# Altium footprint library SamacSys.PcbLib: 89 footprints (part 3 of 6)
Each footprint in its own frame and in the unit in brackets; x right, y up, seen from the top. Pads: shape width x height; smd on the part's side, far side on the other; paste and mask are expansions set on the pad; w line width, h text height; cw(c..) or ccw(c..) is an arc to the next point about the centre after c.
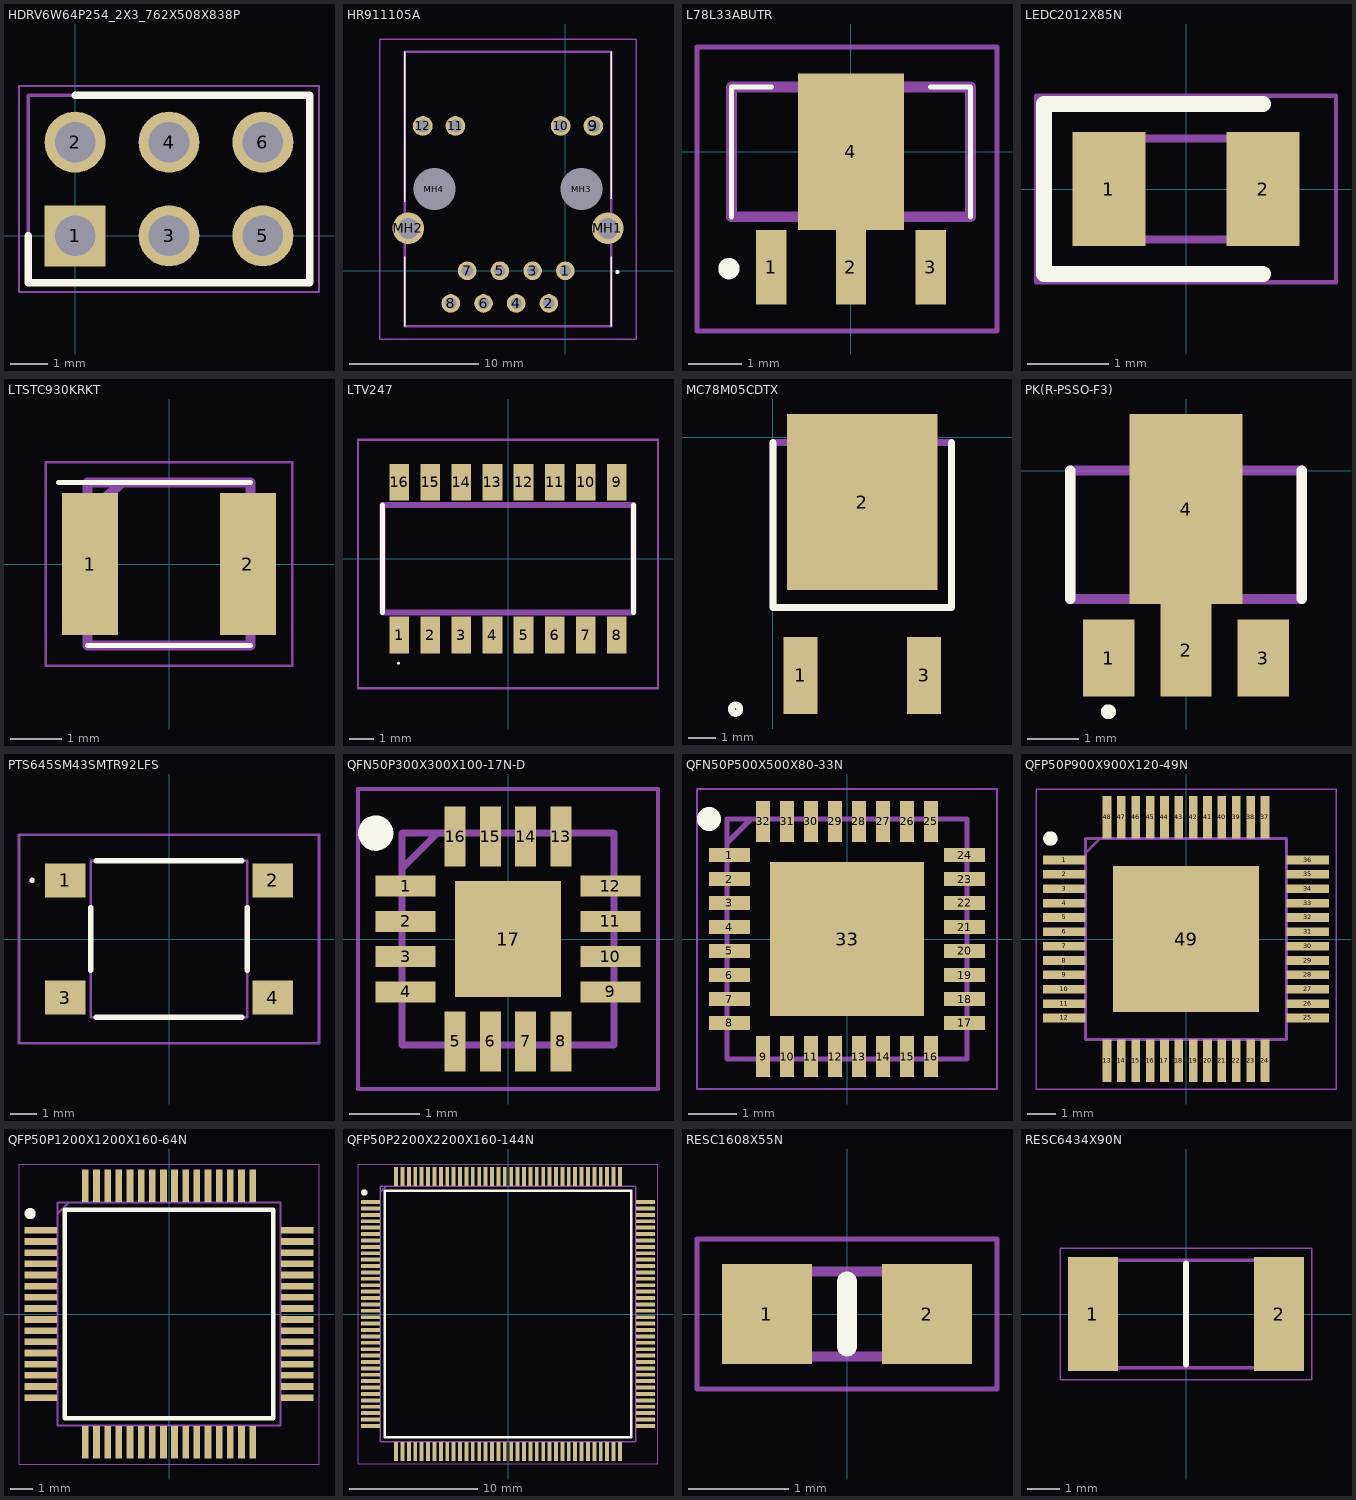
[diagram p2: the footprints below, top view; thin cyan lines are the x and y axes]

## HDRV6W64P254_2X3_762X508X838P [mm]
pads (6):
  rect 1.65x1.65 hole 1.1: 1(0,0)
  round 1.65 hole 1.1: 2(0,2.54) 3(2.54,0) 4(2.54,2.54) 5(5.08,0) 6(5.08,2.54)
Top Overlay:
  lines w0.2: -1.27,0 -1.27,-1.27 6.35,-1.27 6.35,3.81 0,3.81
Mechanical 13:
  lines w0.1: -1.27,-1.27 6.35,-1.27 6.35,3.81 -1.27,3.81 -1.27,-1.27
Mechanical 15:
  lines w0.05: -1.52,-1.52 6.6,-1.52 6.6,4.06 -1.52,4.06 -1.52,-1.52
3D body "TSW-103-07-L-D-LL.stp": height 8.38, standoff -2.54, extent -1.27,-1.27 6.35,3.81

## HR911105A [mm]
pads (16):
  round 1.446 hole 0.89: 1(0,0) 2(-1.27,-2.54) 3(-2.54,0) 4(-3.81,-2.54) 5(-5.08,0) 6(-6.35,-2.54) 7(-7.62,0) 8(-8.89,-2.54)
  round 1.53 hole 1.02: 9(2.18,11.25) 10(-0.36,11.25) 11(-8.53,11.25) 12(-11.07,11.25)
  round 2.445 hole 1.63: MH1(3.3,3.3) MH2(-12.19,3.3)
  round 1.625 hole 3.25 unplated: MH3(1.27,6.35) MH4(-10.16,6.35)
Top Overlay:
  lines w0.1: -12.465,-4.3 -12.465,1.1 -12.465,-4.3 ; -12.465,5.35 -12.465,17 -12.465,5.35 ; 3.575,-4.3 3.575,1.1 3.575,-4.3 ; 3.575,5.6 3.575,17 3.575,5.6
  lines w0.2: 4.05,-0.15 ccw(c4.05,-0.1) 4.05,-0.05 ; 4.05,-0.15 cw(c4.05,-0.1) 4.05,-0.05 ; 4.05,-0.15 ccw(c4.05,-0.1) 4.05,-0.05
Mechanical 13:
  lines w0.2: -12.465,-4.3 3.575,-4.3 3.575,17 -12.465,17 -12.465,-4.3
Mechanical 15:
  lines w0.1: -14.417,-5.3 5.518,-5.3 5.518,18 -14.417,18 -14.417,-5.3
3D body "HR911105A.stp": height 13.53, standoff -2.97, extent -12.39,-4.08 3.49,17.32

## L78L33ABUTR [mm]
pads (4):
  rect 0.57x1.4 smd: 1(-1.5,-2.175) 2(0,-2.175) 3(1.5,-2.175)
  rect 2x2.95 smd: 4(0,0)
Top Overlay:
  lines w0.1: -2.25,-1.223 -2.25,1.222 -1.5,1.222 ; 1.5,1.222 2.25,1.222 2.25,-1.223
  lines w0.2: -2.3,-2.3 cw(c-2.3,-2.2) -2.3,-2.1 cw(c-2.3,-2.2) -2.3,-2.3
Mechanical 13:
  lines w0.2: -2.25,-1.223 2.25,-1.223 2.25,1.222 -2.25,1.222 -2.25,-1.223
Mechanical 15:
  lines w0.1: -2.9,-3.375 2.75,-3.375 2.75,1.975 -2.9,1.975 -2.9,-3.375
3D body "L78L33ABUTR.stp": height 1.6, standoff 0, extent -2.19,-2.818 2.31,1.278

## LEDC2012X85N [mm]
pads (2):
  rect 0.9x1.4 smd: 1(-0.95,0) 2(0.95,0)
Top Overlay:
  lines w0.2: 0.95,-1.05 -1.75,-1.05 -1.75,1.05 0.95,1.05
Mechanical 13:
  lines w0.1: -1,0.208 -0.583,0.625 ; -1,-0.625 1,-0.625 1,0.625 -1,0.625 -1,-0.625
Mechanical 15:
  lines w0.05: -1.85,-1.15 1.85,-1.15 1.85,1.15 -1.85,1.15 -1.85,-1.15
3D body "APT2012SRCPRV.stp": height 0.77, standoff 0, extent -1.02,-0.625 1.02,0.625

## LTSTC930KRKT [mm]
pads (2):
  rect 1.1x2.8 smd: 1(-1.55,0) 2(1.55,0)
Top Overlay:
  lines w0.1: -2.175,1.6 1.6,1.6 ; -1.6,-1.6 1.6,-1.6
Mechanical 13:
  lines w0.2: -1.6,1 -0.925,1.6 ; -1.6,-1.6 1.6,-1.6 1.6,1.6 -1.6,1.6 -1.6,-1.6
Mechanical 15:
  lines w0.05: -2.425,-2 2.425,-2 2.425,2 -2.425,2 -2.425,-2
3D body "LTST-C930KRKT.stp": height 2.3, standoff 0, extent -1.6,-1.2 1.6,1.2

## LTV247 [mm]
pads (16):
  rect 0.8x1.5 smd: 1(-4.445,-3.125) 2(-3.175,-3.125) 3(-1.905,-3.125) 4(-0.635,-3.125) 5(0.635,-3.125) 6(1.905,-3.125) 7(3.175,-3.125) 8(4.445,-3.125) 9(4.445,3.125) 10(3.175,3.125) 11(1.905,3.125) 12(0.635,3.125) 13(-0.635,3.125) 14(-1.905,3.125) 15(-3.175,3.125) 16(-4.445,3.125)
Top Overlay:
  lines w0.061: -4.507,-4.278 ccw(c-4.477,-4.278) -4.447,-4.278 ccw(c-4.477,-4.278) -4.507,-4.278
  lines w0.2: -5.14,-2.2 -5.14,2.2 ; 5.14,-2.2 5.14,2.2
Mechanical 13:
  lines w0.254: -5.14,-2.2 5.14,-2.2 5.14,2.2 -5.14,2.2 -5.14,-2.2
Mechanical 15:
  lines w0.1: -6.14,-5.308 6.14,-5.308 6.14,4.875 -6.14,4.875 -6.14,-5.308
3D body "LTV-247.stp": height 2.12, standoff 0, extent -5.14,-3.52 5.14,3.48

## MC78M05CDTX [mm]
pads (3):
  rect 1.25x2.85 smd: 1(1.02,-8.8) 3(5.58,-8.8)
  rect 5.55x6.5 smd: 2(3.3,-2.4)
Top Overlay:
  circle w0.254: c-1.378,-10.045 r0.156
  lines w0.254: 0,-0.2 0,-6.3 6.6,-6.3 6.6,-0.2
Mechanical 13:
  lines w0.254: 0,-6.3 6.6,-6.3 6.6,-0.2 0,-0.2 0,-6.3

## PK(R-PSSO-F3) [mm]
pads (4):
  rect 1x1.5 smd: 1(-1.5,-3.65) 3(1.5,-3.65)
  rect 1x1.8 smd: 2(0,-3.5)
  rect 2.2x3.7 smd: 4(0,-0.75)
Top Overlay:
  circle w0.2: c-1.51,-4.694 r0.044
  lines w0.2: -2.25,-2.5 -2.25,0 ; 2.25,-2.5 2.25,0
Mechanical 13:
  lines w0.2: -2.25,-2.5 2.25,-2.5 2.25,0 -2.25,0 -2.25,-2.5
3D body "UA78L05ACPK.stp": height 1.6, standoff 0, extent -2.3,-4.21 2.3,0.512

## PTS645SM43SMTR92LFS [mm]
pads (4):
  rect 1.55x1.3 smd: 1(-3.975,2.25) 2(3.975,2.25) 3(-3.975,-2.25) 4(3.975,-2.25)
Top Overlay:
  lines w0.1: -5.3,2.25 ccw(c-5.25,2.25) -5.2,2.25 ccw(c-5.25,2.25) -5.3,2.25
  lines w0.2: -3,-1.2 -3,1.2 ; -2.8,-3 2.8,-3 ; -2.8,3 2.8,3 ; 3,-1.2 3,1.2
Mechanical 13:
  lines w0.1: -3,-3 3,-3 3,3 -3,3 -3,-3
Mechanical 15:
  lines w0.1: -5.75,-4 5.75,-4 5.75,4 -5.75,4 -5.75,-4
3D body "PTS645SM43SMTR92_LFS.stp": height 4.3, standoff 0, extent -4.5,-3 4.5,3

## QFN50P300X300X100-17N-D [mm]
pads (17):
  rect 0.85x0.3 smd: 1(-1.45,0.75) 2(-1.45,0.25) 3(-1.45,-0.25) 4(-1.45,-0.75) 9(1.45,-0.75) 10(1.45,-0.25) 11(1.45,0.25) 12(1.45,0.75)
  rect 0.3x0.85 smd: 5(-0.75,-1.45) 6(-0.25,-1.45) 7(0.25,-1.45) 8(0.75,-1.45) 13(0.75,1.45) 14(0.25,1.45) 15(-0.25,1.45) 16(-0.75,1.45)
  rect 1.5x1.65 smd: 17(0,0)
Top Overlay:
  circle w0.25: c-1.875,1.5 r0.125
Mechanical 13:
  lines w0.1: -1.5,1 -1,1.5 ; -1.5,-1.5 -1.5,1.5 1.5,1.5 1.5,-1.5 -1.5,-1.5
Mechanical 15:
  lines w0.05: -2.125,-2.125 -2.125,2.125 2.125,2.125 2.125,-2.125 -2.125,-2.125
3D body "PCF8574RGTR.stp": height 1, standoff 0, extent -1.5,-1.5 1.5,1.5

## QFN50P500X500X80-33N [mm]
pads (33):
  rect 0.85x0.3 smd: 1(-2.45,1.75) 2(-2.45,1.25) 3(-2.45,0.75) 4(-2.45,0.25) 5(-2.45,-0.25) 6(-2.45,-0.75) 7(-2.45,-1.25) 8(-2.45,-1.75) 17(2.45,-1.75) 18(2.45,-1.25) 19(2.45,-0.75) 20(2.45,-0.25) 21(2.45,0.25) 22(2.45,0.75) 23(2.45,1.25) 24(2.45,1.75)
  rect 0.3x0.85 smd: 9(-1.75,-2.45) 10(-1.25,-2.45) 11(-0.75,-2.45) 12(-0.25,-2.45) 13(0.25,-2.45) 14(0.75,-2.45) 15(1.25,-2.45) 16(1.75,-2.45) 25(1.75,2.45) 26(1.25,2.45) 27(0.75,2.45) 28(0.25,2.45) 29(-0.25,2.45) 30(-0.75,2.45) 31(-1.25,2.45) 32(-1.75,2.45)
  rect 3.2x3.2 smd: 33(0,0)
Top Overlay:
  circle w0.25: c-2.875,2.5 r0.125
Mechanical 13:
  lines w0.1: -2.5,2 -2,2.5 ; -2.5,-2.5 -2.5,2.5 2.5,2.5 2.5,-2.5 -2.5,-2.5
Mechanical 15:
  lines w0.05: -3.125,-3.125 -3.125,3.125 3.125,3.125 3.125,-3.125 -3.125,-3.125
3D body "TMC2240ATJ+.stp": height 0.8, standoff 0, extent -2.5,-2.5 2.5,2.5

## QFP50P900X900X120-49N [mm]
pads (49):
  rect 1.475x0.3 smd: 1(-4.238,2.75) 2(-4.238,2.25) 3(-4.238,1.75) 4(-4.238,1.25) 5(-4.238,0.75) 6(-4.238,0.25) 7(-4.238,-0.25) 8(-4.238,-0.75) 9(-4.238,-1.25) 10(-4.238,-1.75) 11(-4.238,-2.25) 12(-4.238,-2.75) 25(4.238,-2.75) 26(4.238,-2.25) 27(4.238,-1.75) 28(4.238,-1.25) 29(4.238,-0.75) 30(4.238,-0.25) 31(4.238,0.25) 32(4.238,0.75) 33(4.238,1.25) 34(4.238,1.75) 35(4.238,2.25) 36(4.238,2.75)
  rect 0.3x1.475 smd: 13(-2.75,-4.238) 14(-2.25,-4.238) 15(-1.75,-4.238) 16(-1.25,-4.238) 17(-0.75,-4.238) 18(-0.25,-4.238) 19(0.25,-4.238) 20(0.75,-4.238) 21(1.25,-4.238) 22(1.75,-4.238) 23(2.25,-4.238) 24(2.75,-4.238) 37(2.75,4.238) 38(2.25,4.238) 39(1.75,4.238) 40(1.25,4.238) 41(0.75,4.238) 42(0.25,4.238) 43(-0.25,4.238) 44(-0.75,4.238) 45(-1.25,4.238) 46(-1.75,4.238) 47(-2.25,4.238) 48(-2.75,4.238)
  rect 5.1x5.1 smd: 49(0,0)
Top Overlay:
  circle w0.25: c-4.725,3.5 r0.125
Mechanical 13:
  lines w0.1: -3.5,3 -3,3.5 ; -3.5,-3.5 -3.5,3.5 3.5,3.5 3.5,-3.5 -3.5,-3.5
Mechanical 15:
  lines w0.05: -5.225,-5.225 -5.225,5.225 5.225,5.225 5.225,-5.225 -5.225,-5.225
3D body "TMC5160-TA.stp": height 1.2, standoff 0, extent -4.506,-4.506 4.506,4.506

## QFP50P1200X1200X160-64N [mm]
pads (64):
  rect 1.45x0.3 smd: 1(-5.75,3.75) 2(-5.75,3.25) 3(-5.75,2.75) 4(-5.75,2.25) 5(-5.75,1.75) 6(-5.75,1.25) 7(-5.75,0.75) 8(-5.75,0.25) 9(-5.75,-0.25) 10(-5.75,-0.75) 11(-5.75,-1.25) 12(-5.75,-1.75) 13(-5.75,-2.25) 14(-5.75,-2.75) 15(-5.75,-3.25) 16(-5.75,-3.75) 33(5.75,-3.75) 34(5.75,-3.25) 35(5.75,-2.75) 36(5.75,-2.25) 37(5.75,-1.75) 38(5.75,-1.25) 39(5.75,-0.75) 40(5.75,-0.25) 41(5.75,0.25) 42(5.75,0.75) 43(5.75,1.25) 44(5.75,1.75) 45(5.75,2.25) 46(5.75,2.75) 47(5.75,3.25) 48(5.75,3.75)
  rect 0.3x1.45 smd: 17(-3.75,-5.75) 18(-3.25,-5.75) 19(-2.75,-5.75) 20(-2.25,-5.75) 21(-1.75,-5.75) 22(-1.25,-5.75) 23(-0.75,-5.75) 24(-0.25,-5.75) 25(0.25,-5.75) 26(0.75,-5.75) 27(1.25,-5.75) 28(1.75,-5.75) 29(2.25,-5.75) 30(2.75,-5.75) 31(3.25,-5.75) 32(3.75,-5.75) 49(3.75,5.75) 50(3.25,5.75) 51(2.75,5.75) 52(2.25,5.75) 53(1.75,5.75) 54(1.25,5.75) 55(0.75,5.75) 56(0.25,5.75) 57(-0.25,5.75) 58(-0.75,5.75) 59(-1.25,5.75) 60(-1.75,5.75) 61(-2.25,5.75) 62(-2.75,5.75) 63(-3.25,5.75) 64(-3.75,5.75)
Top Overlay:
  circle w0.25: c-6.225,4.5 r0.125
  lines w0.2: -4.675,-4.675 4.675,-4.675 4.675,4.675 -4.675,4.675 -4.675,-4.675
Mechanical 13:
  lines w0.1: -5,4.5 -4.5,5 ; -5,-5 5,-5 5,5 -5,5 -5,-5
Mechanical 15:
  lines w0.05: -6.725,-6.725 6.725,-6.725 6.725,6.725 -6.725,6.725 -6.725,-6.725
3D body "STM32F100R8T6B.stp": height 1.6, standoff 0, extent -6,-6 6,6

## QFP50P2200X2200X160-144N [mm]
pads (144):
  rect 1.475x0.3 smd: 1(-10.738,8.75) 2(-10.738,8.25) 3(-10.738,7.75) 4(-10.738,7.25) 5(-10.738,6.75) 6(-10.738,6.25) 7(-10.738,5.75) 8(-10.738,5.25) 9(-10.738,4.75) 10(-10.738,4.25) 11(-10.738,3.75) 12(-10.738,3.25) 13(-10.738,2.75) 14(-10.738,2.25) 15(-10.738,1.75) 16(-10.738,1.25) 17(-10.738,0.75) 18(-10.738,0.25) 19(-10.738,-0.25) 20(-10.738,-0.75) 21(-10.738,-1.25) 22(-10.738,-1.75) 23(-10.738,-2.25) 24(-10.738,-2.75) 25(-10.738,-3.25) 26(-10.738,-3.75) 27(-10.738,-4.25) 28(-10.738,-4.75) 29(-10.738,-5.25) 30(-10.738,-5.75) 31(-10.738,-6.25) 32(-10.738,-6.75) 33(-10.738,-7.25) 34(-10.738,-7.75) 35(-10.738,-8.25) 36(-10.738,-8.75) 73(10.738,-8.75) 74(10.738,-8.25) 75(10.738,-7.75) 76(10.738,-7.25) 77(10.738,-6.75) 78(10.738,-6.25) 79(10.738,-5.75) 80(10.738,-5.25) 81(10.738,-4.75) 82(10.738,-4.25) 83(10.738,-3.75) 84(10.738,-3.25) 85(10.738,-2.75) 86(10.738,-2.25) 87(10.738,-1.75) 88(10.738,-1.25) 89(10.738,-0.75) 90(10.738,-0.25) 91(10.738,0.25) 92(10.738,0.75) 93(10.738,1.25) 94(10.738,1.75) 95(10.738,2.25) 96(10.738,2.75) 97(10.738,3.25) 98(10.738,3.75) 99(10.738,4.25) 100(10.738,4.75) 101(10.738,5.25) 102(10.738,5.75) 103(10.738,6.25) 104(10.738,6.75) 105(10.738,7.25) 106(10.738,7.75) 107(10.738,8.25) 108(10.738,8.75)
  rect 0.3x1.475 smd: 37(-8.75,-10.738) 38(-8.25,-10.738) 39(-7.75,-10.738) 40(-7.25,-10.738) 41(-6.75,-10.738) 42(-6.25,-10.738) 43(-5.75,-10.738) 44(-5.25,-10.738) 45(-4.75,-10.738) 46(-4.25,-10.738) 47(-3.75,-10.738) 48(-3.25,-10.738) 49(-2.75,-10.738) 50(-2.25,-10.738) 51(-1.75,-10.738) 52(-1.25,-10.738) 53(-0.75,-10.738) 54(-0.25,-10.738) 55(0.25,-10.738) 56(0.75,-10.738) 57(1.25,-10.738) 58(1.75,-10.738) 59(2.25,-10.738) 60(2.75,-10.738) 61(3.25,-10.738) 62(3.75,-10.738) 63(4.25,-10.738) 64(4.75,-10.738) 65(5.25,-10.738) 66(5.75,-10.738) 67(6.25,-10.738) 68(6.75,-10.738) 69(7.25,-10.738) 70(7.75,-10.738) 71(8.25,-10.738) 72(8.75,-10.738) 109(8.75,10.738) 110(8.25,10.738) 111(7.75,10.738) 112(7.25,10.738) 113(6.75,10.738) 114(6.25,10.738) 115(5.75,10.738) 116(5.25,10.738) 117(4.75,10.738) 118(4.25,10.738) 119(3.75,10.738) 120(3.25,10.738) 121(2.75,10.738) 122(2.25,10.738) 123(1.75,10.738) 124(1.25,10.738) 125(0.75,10.738) 126(0.25,10.738) 127(-0.25,10.738) 128(-0.75,10.738) 129(-1.25,10.738) 130(-1.75,10.738) 131(-2.25,10.738) 132(-2.75,10.738) 133(-3.25,10.738) 134(-3.75,10.738) 135(-4.25,10.738) 136(-4.75,10.738) 137(-5.25,10.738) 138(-5.75,10.738) 139(-6.25,10.738) 140(-6.75,10.738) 141(-7.25,10.738) 142(-7.75,10.738) 143(-8.25,10.738) 144(-8.75,10.738)
Top Overlay:
  circle w0.25: c-11.225,9.5 r0.125
  lines w0.2: -9.65,-9.65 9.65,-9.65 9.65,9.65 -9.65,9.65 -9.65,-9.65
Mechanical 13:
  lines w0.1: -10,9.5 -9.5,10 ; -10,-10 10,-10 10,10 -10,10 -10,-10
Mechanical 15:
  lines w0.05: -11.725,-11.725 11.725,-11.725 11.725,11.725 -11.725,11.725 -11.725,-11.725
3D body "STM32F429ZIT6.stp": height 1.6, standoff 0, extent -11,-11 11,11

## RESC1608X55N [mm]
pads (2):
  rect 0.9x1 smd: 1(-0.8,0) 2(0.8,0)
Top Overlay:
  lines w0.2: 0,-0.325 0,0.325
Mechanical 13:
  lines w0.1: -0.8,-0.425 0.8,-0.425 0.8,0.425 -0.8,0.425 -0.8,-0.425
Mechanical 15:
  lines w0.05: -1.5,-0.75 1.5,-0.75 1.5,0.75 -1.5,0.75 -1.5,-0.75
3D body "ERJ-3EKF2200V.stp": height 0.45, standoff 0, extent -0.8,-0.4 0.8,0.4

## RESC6434X90N [mm]
pads (2):
  rect 1.55x3.55 smd: 1(-2.9,0) 2(2.9,0)
Top Overlay:
  lines w0.2: 0,-1.575 0,1.575
Mechanical 13:
  lines w0.1: -3.225,-1.675 3.225,-1.675 3.225,1.675 -3.225,1.675 -3.225,-1.675
Mechanical 15:
  lines w0.05: -3.925,-2.05 3.925,-2.05 3.925,2.05 -3.925,2.05 -3.925,-2.05
3D body "CRA2512-FZ-R020ELF.stp": height 0.9, standoff 0, extent -3.225,-1.675 3.225,1.675